# EAGLE library part DP83867IS (library Public)
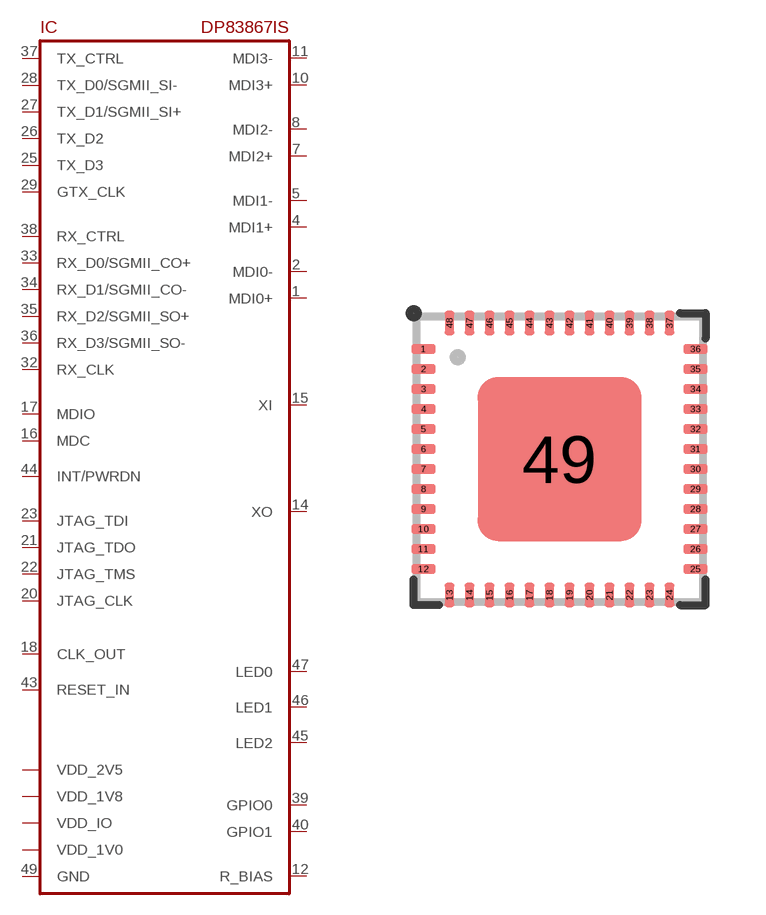
[diagram p216: symbol with the pads of QFN48-0.5; footprint QFN48-0.5]

Designator prefix IC

## DP83867IS  [QFN48-0.5]
1  MDI0+
2  MDI0-
3  VDD_2V5
4  MDI1+
5  MDI1-
6  VDD_1V0
7  MDI2+
8  MDI2-
9  VDD_2V5
10  MDI3+
11  MDI3-
12  R_BIAS
13  VDD_1V8
14  XO
15  XI
16  MDC
17  MDIO
18  CLK_OUT
19  VDD_IO
20  JTAG_CLK
21  JTAG_TDO
22  JTAG_TMS
23  JTAG_TDI
24  VDD_1V0
25  TX_D3
26  TX_D2
27  TX_D1/SGMII_SI+
28  TX_D0/SGMII_SI-
29  GTX_CLK
30  VDD_IO
31  VDD_1V0
32  RX_CLK
33  RX_D0/SGMII_CO+
34  RX_D1/SGMII_CO-
35  RX_D2/SGMII_SO+
36  RX_D3/SGMII_SO-
37  TX_CTRL
38  RX_CTRL
39  GPIO0
40  GPIO1
41  VDD_IO
42  VDD_1V0
43  RESET_IN
44  INT/PWRDN
45  LED2
46  LED1
47  LED0
48  VDD_1V8
49  GND

## Footprint QFN48-0.5 (pad centres in mm)
smd 0.6 x 0.24: 1 -3.4,2.75; 2 -3.4,2.25; 3 -3.4,1.75; 4 -3.4,1.25; 5 -3.4,0.75; 6 -3.4,0.25; 7 -3.4,-0.25; 8 -3.4,-0.75; 9 -3.4,-1.25; 10 -3.4,-1.75; 11 -3.4,-2.25; 12 -3.4,-2.75; 25 3.4,-2.75; 26 3.4,-2.25; 27 3.4,-1.75; 28 3.4,-1.25; 29 3.4,-0.75; 30 3.4,-0.25; 31 3.4,0.25; 32 3.4,0.75; 33 3.4,1.25; 34 3.4,1.75; 35 3.4,2.25; 36 3.4,2.75
smd 0.24 x 0.6: 13 -2.75,-3.4; 14 -2.25,-3.4; 15 -1.75,-3.4; 16 -1.25,-3.4; 17 -0.75,-3.4; 18 -0.25,-3.4; 19 0.25,-3.4; 20 0.75,-3.4; 21 1.25,-3.4; 22 1.75,-3.4; 23 2.25,-3.4; 24 2.75,-3.4; 37 2.75,3.4; 38 2.25,3.4; 39 1.75,3.4; 40 1.25,3.4; 41 0.75,3.4; 42 0.25,3.4; 43 -0.25,3.4; 44 -0.75,3.4; 45 -1.25,3.4; 46 -1.75,3.4; 47 -2.25,3.4; 48 -2.75,3.4
smd 4.1 x 4.1: 49 0,0